# Altium footprint library 电解模块主控板_V1.1_ZM_20210918.PcbLib: 42 footprints (part 1 of 3)
Each footprint in its own frame and in the unit in brackets; x right, y up, seen from the top. Pads: shape width x height; smd on the part's side, far side on the other; paste and mask are expansions set on the pad; w line width, h text height; cw(c..) or ccw(c..) is an arc to the next point about the centre after c.
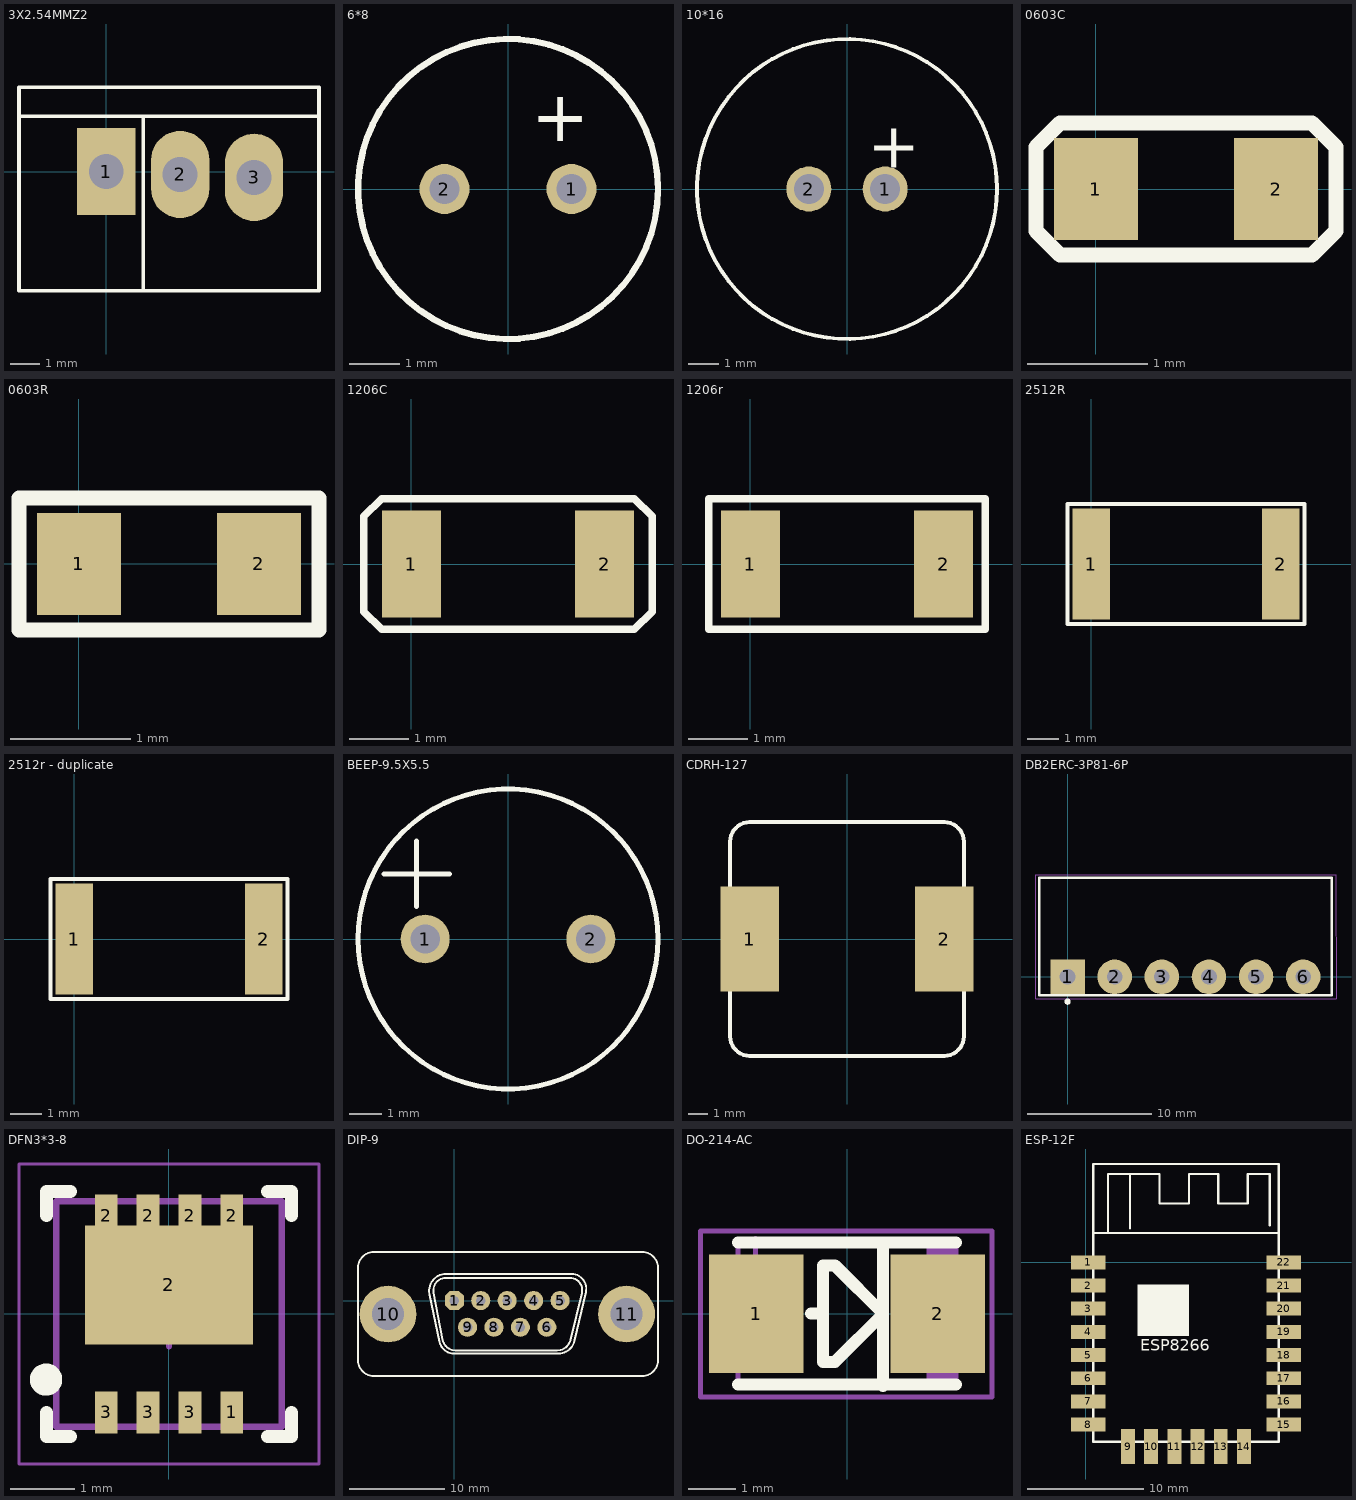
[diagram p0: the footprints below, top view; thin cyan lines are the x and y axes]

## 3X2.54MMZ2 [mm]
pads (3):
  rect 2x3 hole 1.2: 1(0,0)
  oval 2x3 hole 1.2: 2(2.54,-0.1) 3(5.08,-0.2)
Top Overlay:
  lines w0.127: -3,1.9 7.297,1.9 ; 1.27,-4.1 1.27,1.9 ; -3,-4.1 -3,2.9 7.311,2.9 7.311,-4.1 -3,-4.1

## 6*8 [mm]
pads (2):
  round 1 hole 0.6: 1(1.27,0) 2(-1.27,0)
Top Overlay:
  circle w0.127: c0,0 r3
  text "+" at 0.467,0.958 h1.02

## 10*16 [mm]
pads (2):
  round 1.5 hole 1: 1(1.27,0) 2(-1.27,0)
Top Overlay:
  circle w0.127: c0,0 r5
  text "+" at 0.686,0.711 h1.52

## 0603C [mm]
pads (2):
  rect 0.7x0.85 smd: 1(0,0) 2(1.5,0)
Top Overlay:
  lines w0.127: -0.5,-0.35 -0.3,-0.55 1.8,-0.55 2,-0.35 2,0.35 1.8,0.55 -0.3,0.55 -0.5,0.35 -0.5,-0.35

## 0603R [mm]
pads (2):
  rect 0.7x0.85 smd: 1(0,0) 2(1.5,0)
Top Overlay:
  lines w0.127: -0.5,-0.55 2,-0.55 2,0.55 -0.5,0.55 -0.5,-0.55

## 1206C [mm]
pads (2):
  rect 1x1.8 smd: 1(0,0) 2(3.25,0)
Top Overlay:
  lines w0.127: -0.8,-0.8 -0.8,0.8 -0.5,1.1 3.75,1.1 4.05,0.8 4.05,-0.8 3.75,-1.1 -0.5,-1.1 -0.8,-0.8

## 1206r [mm]
pads (2):
  rect 1x1.8 smd: 1(0,0) 2(3.25,0)
Top Overlay:
  lines w0.127: -0.7,-1.1 -0.7,1.1 3.95,1.1 3.95,-1.1 -0.7,-1.1

## 2512R [mm]
pads (2):
  rect 1.2x3.5 smd: 1(0,0) 2(6,0)
Top Overlay:
  lines w0.127: -0.75,-1.9 6.75,-1.9 6.75,1.9 -0.75,1.9 -0.75,-1.9

## 2512r - duplicate [mm]
pads (2):
  rect 1.2x3.5 smd: 1(0,0) 2(6,0)
Top Overlay:
  lines w0.127: -0.75,-1.9 6.75,-1.9 6.75,1.9 -0.75,1.9 -0.75,-1.9

## BEEP-9.5X5.5 [mm]
pads (2):
  round 1.5 hole 0.9: 1(-2.54,0) 2(2.54,0)
Top Overlay:
  circle w0.152: c0,0 r4.6
  lines w0.152: -3.8,2 -1.8,2 ; -2.8,1 -2.8,3

## CDRH-127 [mm]
pads (2):
  rect 3x5.4 smd: 1(-5,0) 2(5,0)
Top Overlay:
  lines w0.2: -6,-5 ccw(c-5,-5) -5,-6 5,-6 ccw(c5,-5) 6,-5 6,5 ccw(c5,5) 5,6 -5,6 ccw(c-5,5) -6,5 -6,-5
3D body: height 8.2, standoff 0, extent -6,-6 6,6

## DB2ERC-3P81-6P [mm]
pads (6):
  rect 2.79x2.79 hole 1.27: 1(0,0)
  round 2.79 hole 1.27: 2(3.81,0) 3(7.62,0) 4(11.43,0) 5(15.24,0) 6(19.05,0)
Top Overlay:
  circle w0.25: c0,-2 r0.13
  lines w0.2: -2.3,-1.5 21.35,-1.5 21.35,8 -2.3,8 -2.3,-1.5
Mechanical 1:
  text "J32" at -1.454,-0.635 h1.27
Mechanical 16:
  lines w0.025: -2.55,-1.75 21.7,-1.75 21.7,8.25 -2.55,8.25 -2.55,-1.75

## DFN3*3-8 [mm] "QFN, 16-Leads, Body 3.30x3.30mm, Pitch 0.65mm, Thermal Pad 2.45x2.45mm, IPC Medium Density"
height 0.8
pads (9):
  rect 0.35x0.65 smd: 1(0.975,-1.525) 2(-0.975,1.525) 2(-0.325,1.525) 2(0.325,1.525) 2(0.975,1.525) 3(-0.975,-1.525) 3(-0.325,-1.525) 3(0.325,-1.525)
  rect 2.6x1.84 smd: 2(0,0.45)
Top Overlay:
  circle w0.25: c-1.905,-1.016 r0.125
  lines w0.2: -1.9,-1.525 -1.9,-1.9 -1.525,-1.9 ; -1.9,1.525 -1.9,1.9 -1.525,1.9 ; 1.525,-1.9 1.9,-1.9 1.9,-1.525 ; 1.525,1.9 1.9,1.9 1.9,1.525
Mechanical 13:
  lines w0.1: -1.75,-1.75 -1.75,1.75 1.75,1.75 1.75,-1.75 -1.75,-1.75
Mechanical 15:
  lines w0.05: -2.325,-2.325 -2.325,2.325 2.325,2.325 2.325,-2.325 -2.325,-2.325
  lines w0.1: -0.5,0 0.5,0 ; 0,-0.5 0,0.5
3D body: height 0.8, standoff 0.01, extent -1.75,-1.75 1.75,1.75

## DIP-9 [mm]
pads (11):
  oct 2x2 hole 1: 1(0,0)
  round 2 hole 1: 2(2.77,0) 3(5.54,0) 4(8.31,0) 5(11.08,0) 6(9.695,-2.803) 7(6.925,-2.803) 8(4.155,-2.803) 9(1.385,-2.803)
  round 5.95 hole 3.35: 10(-6.94,-1.42) 11(18.055,-1.42)
Top Overlay:
  lines w0.203: -10.093,-6.243 ccw(c-8.42,-6.243) -8.42,-7.915 19.67,-7.915 ccw(c19.67,-6.242) 21.343,-6.242 21.343,3.42 ccw(c19.67,3.42) 19.67,5.093 -8.42,5.092 ccw(c-8.42,3.42) -10.093,3.42 -10.093,-6.243 ; -2.597,0.643 cw(c-0.862,1.013) -0.862,2.787 12.268,2.787 cw(c12.268,1.231) 13.784,0.88 12.607,-4.2 cw(c10.892,-3.803) 10.892,-5.562 -0.025,-5.562 cw(c-0.025,-4.018) -1.536,-4.34 -2.597,0.643 ; -2.172,0.807 cw(c-0.877,1.056) -0.877,2.375 12.107,2.375 cw(c12.107,1.086) 13.359,0.78 12.159,-4.138 cw(c10.775,-3.8) 10.775,-5.225 0.132,-5.225 cw(c0.132,-3.843) -1.224,-4.105 -2.172,0.807

## DO-214-AC [mm]
pads (2):
  rect 2x2.5 smd: 1(-1.915,0) 2(1.915,0)
Top Overlay:
  lines w0.254: -2.3,-1.5 2.3,-1.5 ; -2.3,1.5 2.3,1.5 ; -0.762,0 -0.508,0 ; 0.762,-1.524 0.762,1.473 ; -0.508,-1.016 -0.254,-1.016 0.762,0 -0.254,1.016 -0.508,1.016 -0.508,-1.016
Mechanical 13:
  rectangle: 1.681,-1.475 2.3,1.475
  lines w0.1: -2.3,-1.475 -2.3,1.475 2.3,1.475 2.3,-1.475 -2.3,-1.475
Mechanical 15:
  lines w0.1: -2.43,1.092 -1.43,1.092 ; -1.93,0.592 -1.93,1.592 ; -3.09,-1.758 3.06,-1.758 3.06,1.742 -3.09,1.742 -3.09,-1.758
3D body: height 2.4, standoff 0, extent -2.3,-1.35 2.3,1.35

## ESP-12F [mm]
pads (22):
  rect 3x1.2 smd: 1(0.203,0) 2(0.203,-2) 3(0.203,-4) 4(0.203,-6) 5(0.203,-8) 6(0.203,-10) 7(0.203,-12) 8(0.203,-14) 15(17.069,-14) 16(17.069,-12) 17(17.069,-10) 18(17.069,-8) 19(17.069,-6) 20(17.069,-4) 21(17.069,-2) 22(17.069,0)
  rect 1.2x3 smd: 9(3.632,-15.9) 10(5.632,-15.9) 11(7.632,-15.9) 12(9.632,-15.9) 13(11.632,-15.9) 14(13.632,-15.9)
Top Overlay:
  rectangle: 4.445,-6.35 8.89,-1.905
  lines w0.2: 0.635,2.54 16.637,2.54 ; 1.905,2.54 1.905,7.62 6.35,7.62 6.35,5.08 8.89,5.08 8.89,7.62 11.43,7.62 11.43,5.08 13.97,5.08 13.97,7.62 15.875,7.62 15.875,3.175 ; 3.81,2.921 3.81,7.62 ; 0.635,-15.494 16.637,-15.494 16.637,8.486 0.635,8.486 0.635,-15.494
  text "ESP8266" at 4.699,-7.62 h1.02